# Altium schematic symbol library TIL2V.Schlib: 1 symbol
Pins are listed as number, name and electrical type; pins without a type are passive.

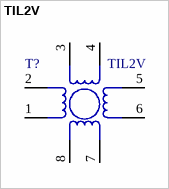
[diagram p0: symbol TIL2V]

## TIL2V
designator T?
Наименование: ОС ТИЛ-2В; Назначение: Трансформатор с 4-мя обмотками
footprint ТИЛ6В
pins: 1 (oc), 2 (oc), 3 (oc), 4 (oc), 5 (oc), 6 (oc), 7 (oc), 8 (oc)